# EAGLE library part F-2X06- (library con-headers-jp)
FEMALE HEADER
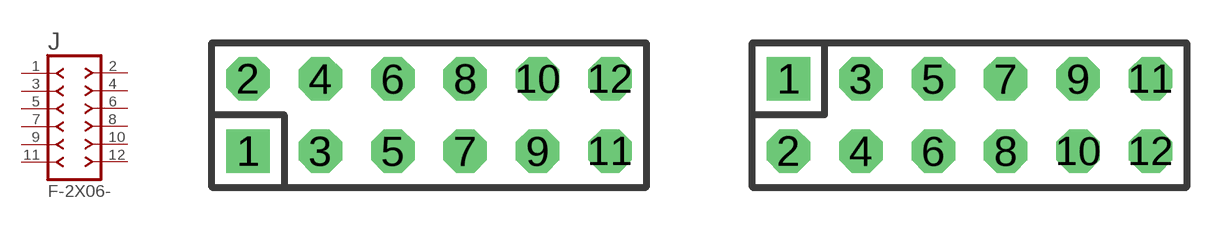
[diagram p35: symbol with the pads of DIL-100-2X06; footprints DIL-100-2X06, DIL-100-2X06_M]

Designator prefix J

## F-2X06-DIL-100  [DIL-100-2X06]
1  1  pas
2  2  pas
3  3  pas
4  4  pas
5  5  pas
6  6  pas
7  7  pas
8  8  pas
9  9  pas
10  10  pas
11  11  pas
12  12  pas

## F-2X06-DIL-100_M  [DIL-100-2X06_M]
Pads as for DIL-100-2X06

## F-2X06-DIL-2MM  [DIL-2MM-2X06]
Pads as for DIL-100-2X06

## F-2X06-DIL-2MM_M  [DIL-2MM-2X06_M]
Pads as for DIL-100-2X06

## F-2X06-71991  [71991-12]
Pads as for DIL-100-2X06

## F-2X06-79107  [79107-12]
Pads as for DIL-100-2X06

## F-2X06-79107_M  [79107-12_M]
Pads as for DIL-100-2X06

## Footprint DIL-100-2X06 (pad centres in mm)
PIN HEADER - 0.1"
drill 1.016 square: 1 -6.35,-1.27
drill 1.016 octagon: 2 -6.35,1.27; 3 -3.81,-1.27; 4 -3.81,1.27; 5 -1.27,-1.27; 6 -1.27,1.27; 7 1.27,-1.27; 8 1.27,1.27; 9 3.81,-1.27; 10 3.81,1.27; 11 6.35,-1.27; 12 6.35,1.27

## Footprint DIL-100-2X06_M (pad centres in mm)
PIN HEADER - MIRRORED 0.1"
drill 1.016 square: 1 -6.35,1.27
drill 1.016 octagon: 2 -6.35,-1.27; 3 -3.81,1.27; 4 -3.81,-1.27; 5 -1.27,1.27; 6 -1.27,-1.27; 7 1.27,1.27; 8 1.27,-1.27; 9 3.81,1.27; 10 3.81,-1.27; 11 6.35,1.27; 12 6.35,-1.27

## Footprint DIL-2MM-2X06 (pad centres in mm)
PIN HEADER - 2MM"
drill 0.711 pad 1.321 square: 1 -5,-1
drill 0.711 pad 1.321: 2 -5,1; 3 -3,-1; 4 -3,1; 5 -1,-1; 6 -1,1; 7 1,-1; 8 1,1; 9 3,-1; 10 3,1; 11 5,-1; 12 5,1

## Footprint DIL-2MM-2X06_M (pad centres in mm)
PIN HEADER - MIRRORED 2MM
drill 0.711 pad 1.321 square: 1 -5,1
drill 0.711 pad 1.321: 2 -5,-1; 3 -3,1; 4 -3,-1; 5 -1,1; 6 -1,-1; 7 1,1; 8 1,-1; 9 3,1; 10 3,-1; 11 5,1; 12 5,-1

## Footprint 71991-12 (pad centres in mm)
FCI - Dual Entry Female Pass Through, 0.1" spacing
drill 0.813 square: 1 -6.35,-3.81
drill 0.813 octagon: 2 -6.35,3.81; 3 -3.81,-3.81; 4 -3.81,3.81; 5 -1.27,-3.81; 6 -1.27,3.81; 7 1.27,-3.81; 8 1.27,3.81; 9 3.81,-3.81; 10 3.81,3.81; 11 6.35,-3.81; 12 6.35,3.81
hole 1.422 at -6.35,-1.27
hole 1.422 at -6.35,1.27
hole 1.422 at -3.81,1.27
hole 1.422 at -3.81,-1.27
hole 1.422 at -1.27,1.27
hole 1.422 at -1.27,-1.27
hole 1.422 at 1.27,1.27
hole 1.422 at 1.27,-1.27
hole 1.422 at 3.81,1.27
hole 1.422 at 3.81,-1.27
hole 1.422 at 6.35,1.27
hole 1.422 at 6.35,-1.27

## Footprint 79107-12 (pad centres in mm)
Molex Board-To-Board Receptacal 2.00mm (.079") Pitch Milli-Grid Header, Vertical, Through-Hole Mates with: 87759, 87762, 87758, 87760
drill 0.711 square: 1 -5,-1
drill 0.711: 2 -5,1; 3 -3,-1; 4 -3,1; 5 -1,-1; 6 -1,1; 7 1,-1; 8 1,1; 9 3,-1; 10 3,1; 11 5,-1; 12 5,1

## Footprint 79107-12_M (pad centres in mm)
Molex Board-To-Board Receptacal - MIRRORED 2.00mm (.079") Pitch Milli-Grid Header, Vertical, Through-Hole Mates with: 87759, 87762, 87758, 87760
drill 0.711 square: 1 -5,1
drill 0.711: 2 -5,-1; 3 -3,1; 4 -3,-1; 5 -1,1; 6 -1,-1; 7 1,1; 8 1,-1; 9 3,1; 10 3,-1; 11 5,1; 12 5,-1